# EAGLE library part LTC3105 (library Oles komponentbibliotek)
400 mA step-up DC/DC converter
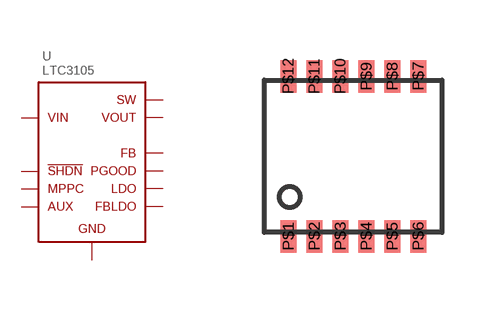
[diagram p20: symbol with the pads of PLASTIC-MSOP-12; footprint PLASTIC-MSOP-12]

Designator prefix -

## LTC3105  [PLASTIC-MSOP-12]
P$1  FB  pas
P$2  LDO  pwr
P$3  FBLDO  pas
P$4  !SHDN  in
P$5  MPPC  pas
P$6  GND  pwr
P$7  GND  pwr
P$8  VIN  pwr
P$9  SW  pas
P$10  PGOOD  pas
P$11  VOUT  pwr
P$12  AUX  pas

## Footprint PLASTIC-MSOP-12 (pad centres in mm)
smd 0.406 x 0.813: P$1 -1.3,-2; P$2 -0.65,-2; P$3 0,-2; P$4 0.65,-2; P$5 1.3,-2; P$6 1.95,-2; P$7 1.95,2; P$8 1.3,2; P$9 0.65,2; P$10 0,2; P$11 -0.65,2; P$12 -1.3,2